# Altium footprint library SOIC.PcbLib: 18 footprints (part 1 of 2)
Each footprint in its own frame and in the unit in brackets; x right, y up, seen from the top. Pads: shape width x height; smd on the part's side, far side on the other; paste and mask are expansions set on the pad; w line width, h text height; cw(c..) or ccw(c..) is an arc to the next point about the centre after c.
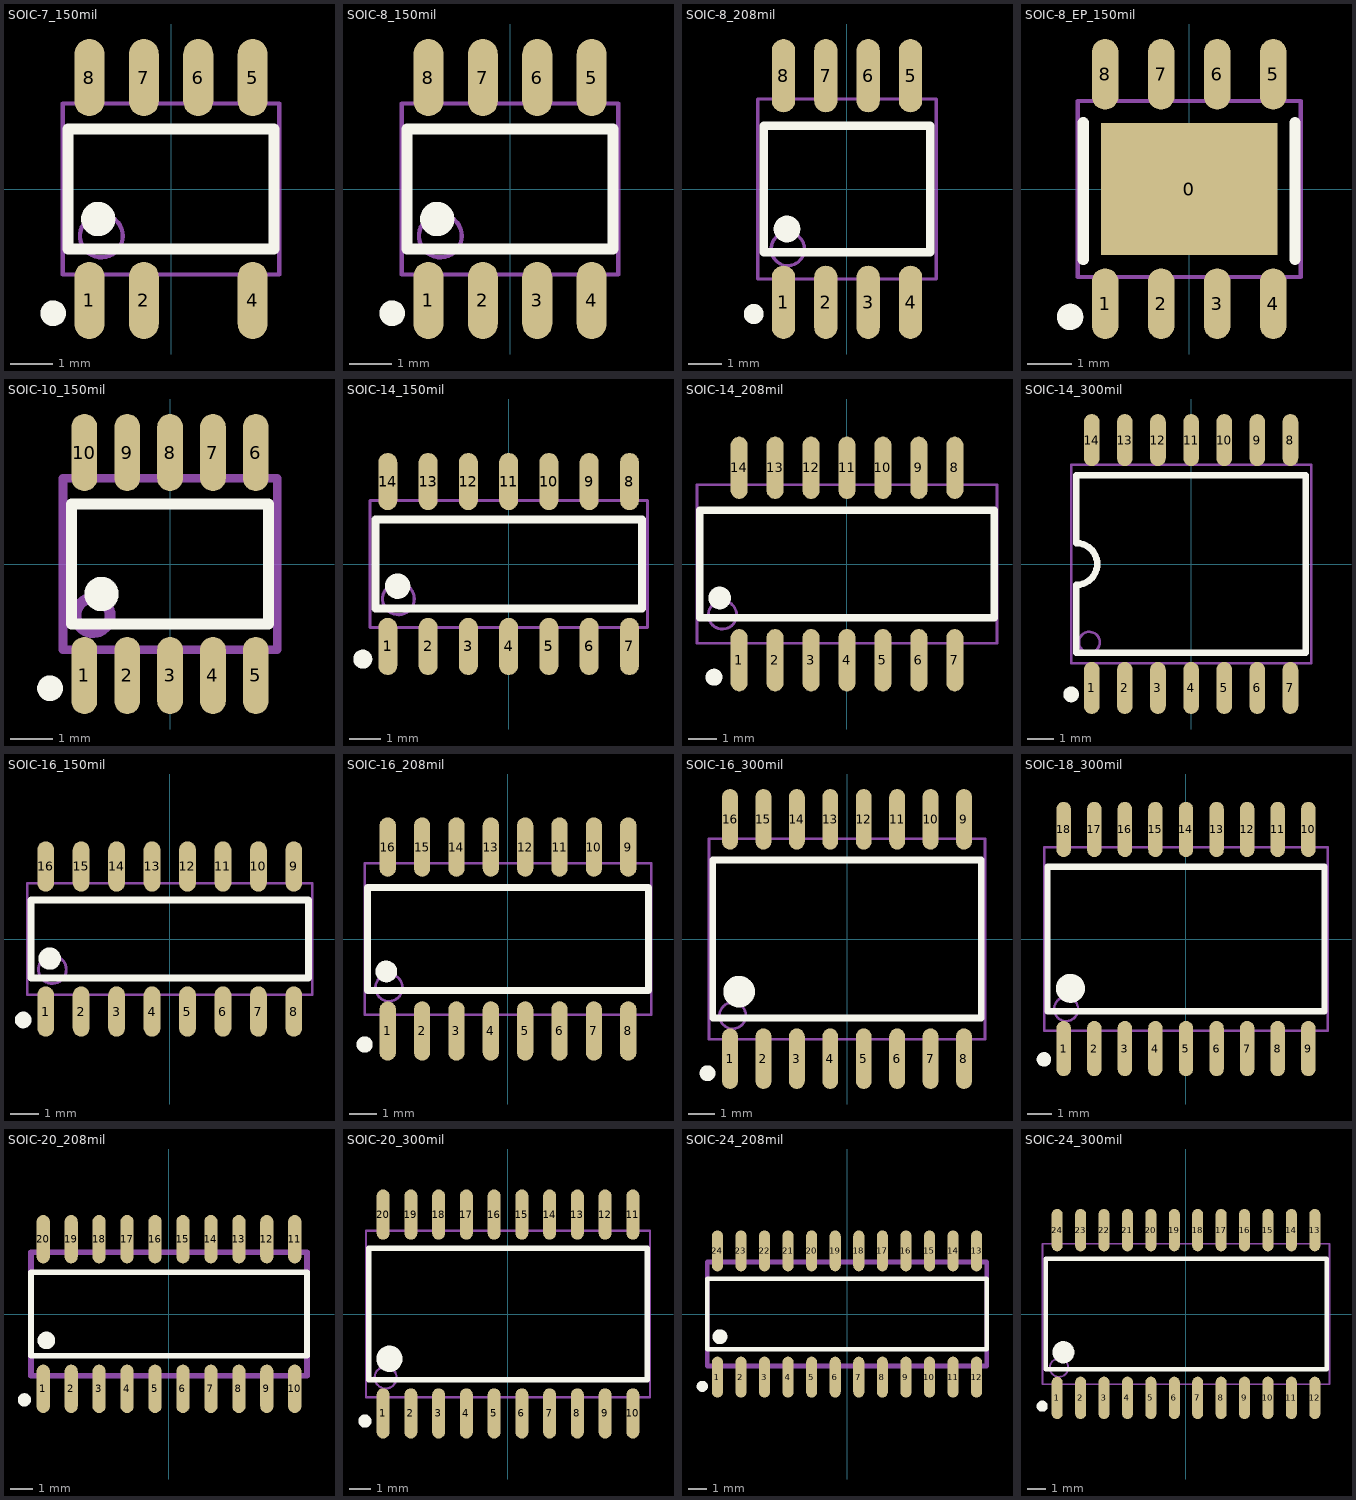
[diagram p0: the footprints below, top view; thin cyan lines are the x and y axes]

## SOIC-7_150mil [mm]
pads (7):
  oval 0.7x1.8 smd: 1(-1.905,-2.6) 2(-0.635,-2.6) 4(1.905,-2.6) 5(1.905,2.6) 6(0.635,2.6) 7(-0.635,2.6) 8(-1.905,2.6)
Top Overlay:
  circle w0.3: c-2.75,-2.9 r0.15
  circle w0.4: c-1.7,-0.7 r0.2
  lines w0.254: -2.4,-1.4 -2.4,1.4 2.4,1.4 2.4,-1.4 -2.4,-1.4
Mechanical 13:
  circle w0.1: c-1.625,-1.095 r0.5
  lines w0.1: -2.525,-1.995 -2.525,1.995 2.525,1.995 2.525,-1.995 -2.525,-1.995

## SOIC-8_150mil [mm]
pads (8):
  oval 0.7x1.8 smd: 1(-1.905,-2.6) 2(-0.635,-2.6) 3(0.635,-2.6) 4(1.905,-2.6) 5(1.905,2.6) 6(0.635,2.6) 7(-0.635,2.6) 8(-1.905,2.6)
Top Overlay:
  circle w0.3: c-2.75,-2.9 r0.15
  circle w0.4: c-1.7,-0.7 r0.2
  lines w0.254: -2.4,-1.4 2.4,-1.4 2.4,1.4 -2.4,1.4 -2.4,-1.4
Mechanical 13:
  circle w0.1: c-1.625,-1.095 r0.5
  lines w0.1: -2.525,-1.995 2.525,-1.995 2.525,1.995 -2.525,1.995 -2.525,-1.995

## SOIC-8_208mil [mm]
pads (8):
  oval 0.7x2.2 smd: 1(-1.905,-3.4) 2(-0.635,-3.4) 3(0.635,-3.4) 4(1.905,-3.4) 5(1.905,3.4) 6(0.635,3.4) 7(-0.635,3.4) 8(-1.905,3.4)
Top Overlay:
  circle w0.3: c-2.797,-3.75 r0.15
  circle w0.4: c-1.8,-1.2 r0.2
  lines w0.254: -2.5,-1.9 -2.5,1.9 2.5,1.9 2.5,-1.9 -2.5,-1.9
Mechanical 13:
  circle w0.1: c-1.775,-1.8 r0.5
  lines w0.1: -2.675,-2.7 -2.675,2.7 2.675,2.7 2.675,-2.7 -2.675,-2.7

## SOIC-8_EP_150mil [mm]
pads (9):
  rect 4x3 smd: 0(0,0)
  oval 0.6x1.6 smd: 1(-1.905,-2.6) 2(-0.635,-2.6) 3(0.635,-2.6) 4(1.905,-2.6) 5(1.905,2.6) 6(0.635,2.6) 7(-0.635,2.6) 8(-1.905,2.6)
Top Overlay:
  circle w0.3: c-2.7,-2.9 r0.15
  lines w0.254: -2.4,-1.6 -2.4,1.5 ; 2.4,-1.6 2.4,1.5
Mechanical 13:
  lines w0.1: -2.525,-1.995 2.525,-1.995 2.525,1.995 -2.525,1.995 -2.525,-1.995

## SOIC-10_150mil [mm]
pads (10):
  oval 0.6x1.8 smd: 1(-2,-2.6) 2(-1,-2.6) 3(0,-2.6) 4(1,-2.6) 5(2,-2.6) 6(2,2.6) 7(1,2.6) 8(0,2.6) 9(-1,2.6) 10(-2,2.6)
Top Overlay:
  circle w0.3: c-2.8,-2.9 r0.15
  circle w0.4: c-1.6,-0.7 r0.2
  lines w0.254: -2.3,-1.4 -2.3,1.4 2.3,1.4 2.3,-1.4 -2.3,-1.4
Mechanical 13:
  circle w0.254: c-1.8,-1.2 r0.4
  lines w0.203: -2.5,-2 2.5,-2 2.5,2 -2.5,2 -2.5,-2

## SOIC-14_150mil [mm]
pads (14):
  oval 0.6x1.8 smd: 1(-3.81,-2.6) 2(-2.54,-2.6) 3(-1.27,-2.6) 4(0,-2.6) 5(1.27,-2.6) 6(2.54,-2.6) 7(3.81,-2.6) 8(3.81,2.6) 9(2.54,2.6) 10(1.27,2.6) 11(0,2.6) 12(-1.27,2.6) 13(-2.54,2.6) 14(-3.81,2.6)
Top Overlay:
  circle w0.4: c-3.5,-0.7 r0.2
  circle w0.3: c-4.6,-3 r0.15
  lines w0.254: -4.2,-1.4 -4.2,1.4 4.2,1.4 4.2,-1.4 -4.2,-1.4
Mechanical 13:
  circle w0.1: c-3.475,-1.1 r0.5
  lines w0.1: -4.375,-2 -4.375,2 4.375,2 4.375,-2 -4.375,-2

## SOIC-14_208mil [mm]
pads (14):
  oval 0.6x2.2 smd: 1(-3.81,-3.4) 2(-2.54,-3.4) 3(-1.27,-3.4) 4(0,-3.4) 5(1.27,-3.4) 6(2.54,-3.4) 7(3.81,-3.4) 8(3.81,3.4) 9(2.54,3.4) 10(1.27,3.4) 11(0,3.4) 12(-1.27,3.4) 13(-2.54,3.4) 14(-3.81,3.4)
Top Overlay:
  circle w0.4: c-4.5,-1.2 r0.2
  circle w0.3: c-4.7,-4 r0.15
  lines w0.254: -5.2,-1.9 5.2,-1.9 5.2,1.9 -5.2,1.9 -5.2,-1.9
Mechanical 13:
  circle w0.1: c-4.4,-1.8 r0.5
  lines w0.1: -5.3,-2.8 5.3,-2.8 5.3,2.8 -5.3,2.8 -5.3,-2.8

## SOIC-14_300mil [mm]
pads (14):
  oval 0.6x2 smd: 1(-3.81,-4.75) 2(-2.54,-4.75) 3(-1.27,-4.75) 4(0,-4.75) 5(1.27,-4.75) 6(2.54,-4.75) 7(3.81,-4.75) 8(3.81,4.75) 9(2.54,4.75) 10(1.27,4.75) 11(0,4.75) 12(-1.27,4.75) 13(-2.54,4.75) 14(-3.81,4.75)
Top Overlay:
  circle w0.3: c-4.6,-5 r0.15
  lines w0.254: -4.4,-3.4 4.4,-3.4 4.4,3.4 -4.4,3.4 -4.4,0.8 cw(c-4.4,0) -4.4,-0.8 -4.4,-3.4
Mechanical 13:
  circle w0.1: c-3.9,-3 r0.4
  lines w0.1: -4.6,-3.8 4.6,-3.8 4.6,3.8 -4.6,3.8 -4.6,-3.8

## SOIC-16_150mil [mm]
pads (16):
  oval 0.6x1.8 smd: 1(-4.445,-2.6) 2(-3.175,-2.6) 3(-1.905,-2.6) 4(-0.635,-2.6) 5(0.635,-2.6) 6(1.905,-2.6) 7(3.175,-2.6) 8(4.445,-2.6) 9(4.445,2.6) 10(3.175,2.6) 11(1.905,2.6) 12(0.635,2.6) 13(-0.635,2.6) 14(-1.905,2.6) 15(-3.175,2.6) 16(-4.445,2.6)
Top Overlay:
  circle w0.3: c-5.25,-2.9 r0.15
  circle w0.4: c-4.3,-0.7 r0.2
  lines w0.254: -4.975,-1.4 4.975,-1.4 4.975,1.4 -4.975,1.4 -4.975,-1.4
Mechanical 13:
  circle w0.1: c-4.205,-1.095 r0.5
  lines w0.1: -5.105,-1.995 5.105,-1.995 5.105,1.995 -5.105,1.995 -5.105,-1.995
3D body "SOIC16P127_990X600X175L60X40.STEP": height 1.75, standoff 0, extent -4.95,-2.97 4.95,3.03

## SOIC-16_208mil [mm]
pads (16):
  oval 0.6x2.2 smd: 1(-4.445,-3.4) 2(-3.175,-3.4) 3(-1.905,-3.4) 4(-0.635,-3.4) 5(0.635,-3.4) 6(1.905,-3.4) 7(3.175,-3.4) 8(4.445,-3.4) 9(4.445,3.4) 10(3.175,3.4) 11(1.905,3.4) 12(0.635,3.4) 13(-0.635,3.4) 14(-1.905,3.4) 15(-3.175,3.4) 16(-4.445,3.4)
Top Overlay:
  circle w0.3: c-5.3,-3.9 r0.15
  circle w0.4: c-4.5,-1.2 r0.2
  lines w0.254: -5.2,-1.9 5.2,-1.9 5.2,1.9 -5.2,1.9 -5.2,-1.9
Mechanical 13:
  circle w0.1: c-4.4,-1.8 r0.5
  lines w0.1: -5.3,-2.8 5.3,-2.8 5.3,2.8 -5.3,2.8 -5.3,-2.8

## SOIC-16_300mil [mm]
pads (16):
  oval 0.6x2.3 smd: 1(-4.445,-4.55) 2(-3.175,-4.55) 3(-1.905,-4.55) 4(-0.635,-4.55) 5(0.635,-4.55) 6(1.905,-4.55) 7(3.175,-4.55) 8(4.445,-4.55) 9(4.445,4.55) 10(3.175,4.55) 11(1.905,4.55) 12(0.635,4.55) 13(-0.635,4.55) 14(-1.905,4.55) 15(-3.175,4.55) 16(-4.445,4.55)
Top Overlay:
  circle w0.3: c-5.3,-5.1 r0.15
  circle w0.6: c-4.1,-2 r0.3
  lines w0.254: -5.1,-3 5.1,-3 5.1,3 -5.1,3 -5.1,-3
Mechanical 13:
  circle w0.1: c-4.345,-2.91 r0.5
  lines w0.1: -5.245,-3.81 5.245,-3.81 5.245,3.81 -5.245,3.81 -5.245,-3.81

## SOIC-18_300mil [mm]
pads (18):
  oval 0.6x2.3 smd: 1(-5.08,-4.55) 2(-3.81,-4.55) 3(-2.54,-4.55) 4(-1.27,-4.55) 5(0,-4.55) 6(1.27,-4.55) 7(2.54,-4.55) 8(3.81,-4.55) 9(5.08,-4.55) 10(5.08,4.55) 11(3.81,4.55) 12(2.54,4.55) 13(1.27,4.55) 14(0,4.55) 15(-1.27,4.55) 16(-2.54,4.55) 17(-3.81,4.55) 18(-5.08,4.55)
Top Overlay:
  circle w0.3: c-5.9,-5 r0.15
  circle w0.6: c-4.8,-2.05 r0.3
  lines w0.254: -5.75,-3 -5.75,3 5.75,3 5.75,-3 -5.75,-3
Mechanical 13:
  circle w0.1: c-4.98,-2.91 r0.5
  lines w0.1: -5.88,-3.81 -5.88,3.81 5.88,3.81 5.88,-3.81 -5.88,-3.81

## SOIC-20_208mil [mm]
pads (20):
  oval 0.6x2.2 smd: 1(-5.715,-3.4) 2(-4.445,-3.4) 3(-3.175,-3.4) 4(-1.905,-3.4) 5(-0.635,-3.4) 6(0.635,-3.4) 7(1.905,-3.4) 8(3.175,-3.4) 9(4.445,-3.4) 10(5.715,-3.4) 11(5.715,3.4) 12(4.445,3.4) 13(3.175,3.4) 14(1.905,3.4) 15(0.635,3.4) 16(-0.635,3.4) 17(-1.905,3.4) 18(-3.175,3.4) 19(-4.445,3.4) 20(-5.715,3.4)
Top Overlay:
  circle w0.4: c-5.57,-1.2 r0.2
  circle w0.3: c-6.57,-3.9 r0.15
  lines w0.254: -6.27,-1.9 -6.27,1.9 6.27,1.9 6.27,-1.9 -6.27,-1.9
Mechanical 13:
  lines w0.254: -6.27,-2.8 -6.27,2.8 6.27,2.8 6.27,-2.8 -6.27,-2.8

## SOIC-20_300mil [mm]
pads (20):
  oval 0.6x2.3 smd: 1(-5.715,-4.55) 2(-4.445,-4.55) 3(-3.175,-4.55) 4(-1.905,-4.55) 5(-0.635,-4.55) 6(0.635,-4.55) 7(1.905,-4.55) 8(3.175,-4.55) 9(4.445,-4.55) 10(5.715,-4.55) 11(5.715,4.55) 12(4.445,4.55) 13(3.175,4.55) 14(1.905,4.55) 15(0.635,4.55) 16(-0.635,4.55) 17(-1.905,4.55) 18(-3.175,4.55) 19(-4.445,4.55) 20(-5.715,4.55)
Top Overlay:
  circle w0.3: c-6.55,-4.9 r0.15
  circle w0.6: c-5.425,-2.05 r0.3
  lines w0.254: -6.375,-3 -6.375,3 6.375,3 6.375,-3 -6.375,-3
Mechanical 13:
  circle w0.1: c-5.6,-2.91 r0.5
  lines w0.1: -6.5,-3.81 -6.5,3.81 6.5,3.81 6.5,-3.81 -6.5,-3.81

## SOIC-24_208mil [mm]
pads (24):
  oval 0.6x2.2 smd: 1(-6.985,-3.4) 2(-5.715,-3.4) 3(-4.445,-3.4) 4(-3.175,-3.4) 5(-1.905,-3.4) 6(-0.635,-3.4) 7(0.635,-3.4) 8(1.905,-3.4) 9(3.175,-3.4) 10(4.445,-3.4) 11(5.715,-3.4) 12(6.985,-3.4) 13(6.985,3.4) 14(5.715,3.4) 15(4.445,3.4) 16(3.175,3.4) 17(1.905,3.4) 18(0.635,3.4) 19(-0.635,3.4) 20(-1.905,3.4) 21(-3.175,3.4) 22(-4.445,3.4) 23(-5.715,3.4) 24(-6.985,3.4)
Top Overlay:
  circle w0.3: c-7.8,-3.9 r0.15
  circle w0.4: c-6.85,-1.225 r0.2
  lines w0.254: -7.54,-1.9 7.54,-1.9 7.54,1.9 -7.54,1.9 -7.54,-1.9
Mechanical 13:
  lines w0.254: -7.54,-2.8 7.54,-2.8 7.54,2.8 -7.54,2.8 -7.54,-2.8

## SOIC-24_300mil [mm]
pads (24):
  oval 0.6x2.3 smd: 1(-6.985,-4.55) 2(-5.715,-4.55) 3(-4.445,-4.55) 4(-3.175,-4.55) 5(-1.905,-4.55) 6(-0.635,-4.55) 7(0.635,-4.55) 8(1.905,-4.55) 9(3.175,-4.55) 10(4.445,-4.55) 11(5.715,-4.55) 12(6.985,-4.55) 13(6.985,4.55) 14(5.715,4.55) 15(4.445,4.55) 16(3.175,4.55) 17(1.905,4.55) 18(0.635,4.55) 19(-0.635,4.55) 20(-1.905,4.55) 21(-3.175,4.55) 22(-4.445,4.55) 23(-5.715,4.55) 24(-6.985,4.55)
Top Overlay:
  circle w0.3: c-7.8,-5 r0.15
  circle w0.6: c-6.65,-2.075 r0.3
  lines w0.254: -7.6,-3 7.625,-3 7.625,3 -7.6,3 -7.6,-3
Mechanical 13:
  circle w0.1: c-6.885,-2.91 r0.5
  lines w0.1: -7.785,-3.81 7.785,-3.81 7.785,3.81 -7.785,3.81 -7.785,-3.81